# Altium footprint library SOP8_BME680_1.PcbLib: 1 footprints
Each footprint in its own frame and in the unit in brackets; x right, y up, seen from the top. Pads: shape width x height; smd on the part's side, far side on the other; paste and mask are expansions set on the pad; w line width, h text height; cw(c..) or ccw(c..) is an arc to the next point about the centre after c.
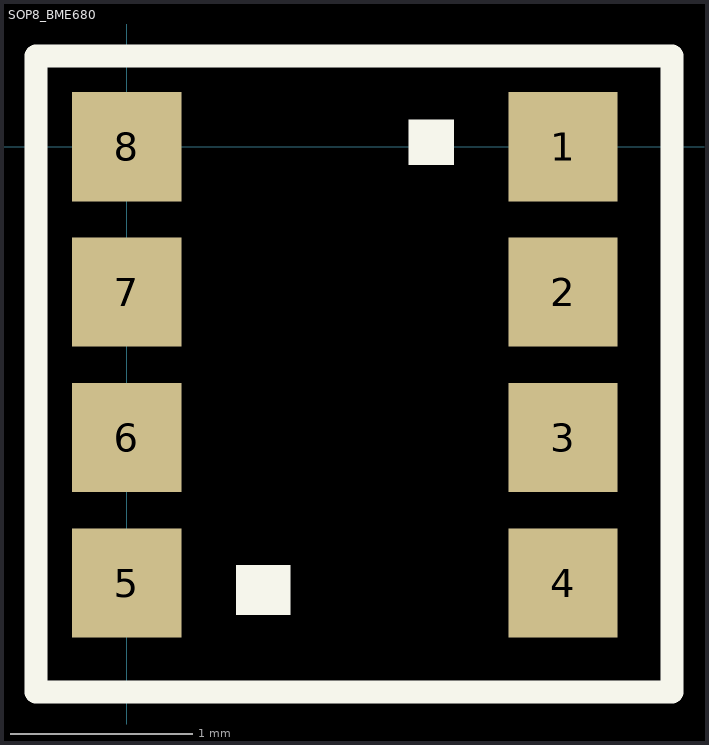
[diagram p0: the footprint, top view; thin cyan lines are the x and y axes]

## SOP8_BME680 [mm]
pads (8):
  rect 0.6x0.6 smd: 1(2.4,0) 2(2.4,-0.8) 3(2.4,-1.6) 4(2.4,-2.4) 5(0,-2.4) 6(0,-1.6) 7(0,-0.8) 8(0,0)
Top Overlay:
  rectangle: 0.6,-2.575 0.9,-2.3
  rectangle: 1.55,-0.1 1.8,0.15
  lines w0.127: -0.5,-3 3,-3 3,0.5 -0.5,0.5 -0.5,-3